# Altium integrated library SN74AHC1G14DBVRE4.IntLib: 1 symbol
Pins are listed as number, name and electrical type; pins without a type are passive.

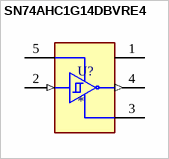
[diagram p0: symbol SN74AHC1G14DBVRE4]

## SN74AHC1G14DBVRE4
designator U?
Single Schmitt-Trigger Inverter Gate 5-SOT-23 -40 to 125; MF: Texas Instruments; MP: SN74AHC1G14DBVRE4; SnapEDA_Link: https://www.snapeda.com/parts/SN74AHC1G14DBVRE4/Texas+Instruments/view-part/?ref=snap; Package: SOT-23-5 Texas Instruments; Value: *; Check_prices: https://www.snapeda.com/parts/SN74AHC1G14DBVRE4/Texas+Instruments/view-part/?ref=eda
footprint SOT95P280X145-5N
pins: 1 NC, 2 A (in), 3 GND (power), 4 Y (out), 5 VCC (power)